# Altium footprint library 8x12_radial.PcbLib: 1 footprints
Each footprint in its own frame and in the unit in brackets; x right, y up, seen from the top. Pads: shape width x height; smd on the part's side, far side on the other; paste and mask are expansions set on the pad; w line width, h text height; cw(c..) or ccw(c..) is an arc to the next point about the centre after c.
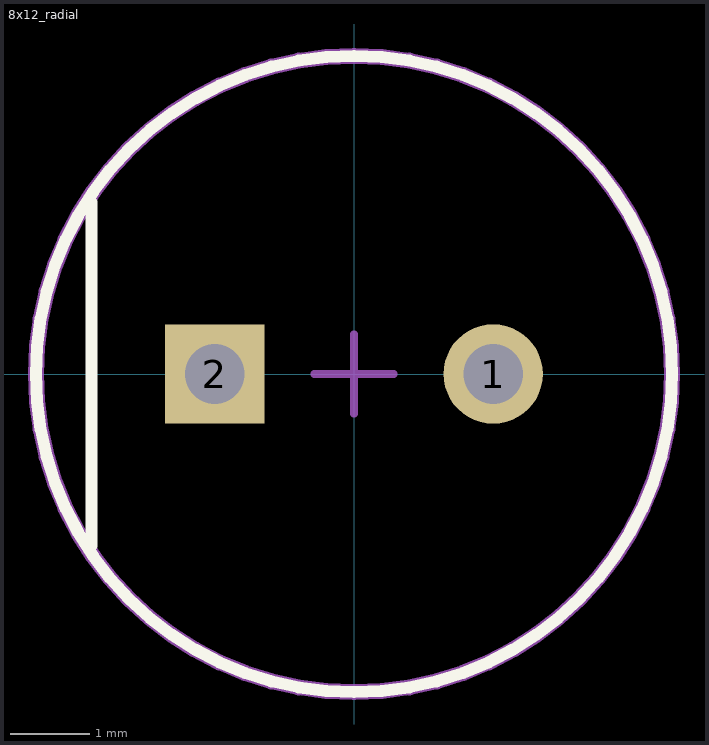
[diagram p0: the footprint, top view; thin cyan lines are the x and y axes]

## 8x12_radial [mm]
pads (2):
  round 1.25 hole 0.75 paste-2539.97 mask+0: 1(1.75,0)
  rect 1.25x1.25 hole 0.75 paste-2539.97 mask+0: 2(-1.75,0)
Top Overlay:
  circle w0.15: c0,0 r4
  lines w0.15: -3.302,-2.159 -3.302,2.159
Top Assembly:
  text ".Designator" at 0,0.188 h1
Top Courtyard:
  lines w0.2: -4,0 ccw(c0,0) 4,0 ccw(c0,0) -4,0
Top Component Center:
  lines w0.1: -0.5,0 0.5,0 ; 0,-0.5 0,0.5
3D body "ElCapVT-3.5-8x12.step": height 12, standoff -3, extent -4,-3.999 4.001,3.999